# Altium footprint library LPEDT_Parts.PcbLib: 39 footprints (part 1 of 3)
Each footprint in its own frame and in the unit in brackets; x right, y up, seen from the top. Pads: shape width x height; smd on the part's side, far side on the other; paste and mask are expansions set on the pad; w line width, h text height; cw(c..) or ccw(c..) is an arc to the next point about the centre after c.
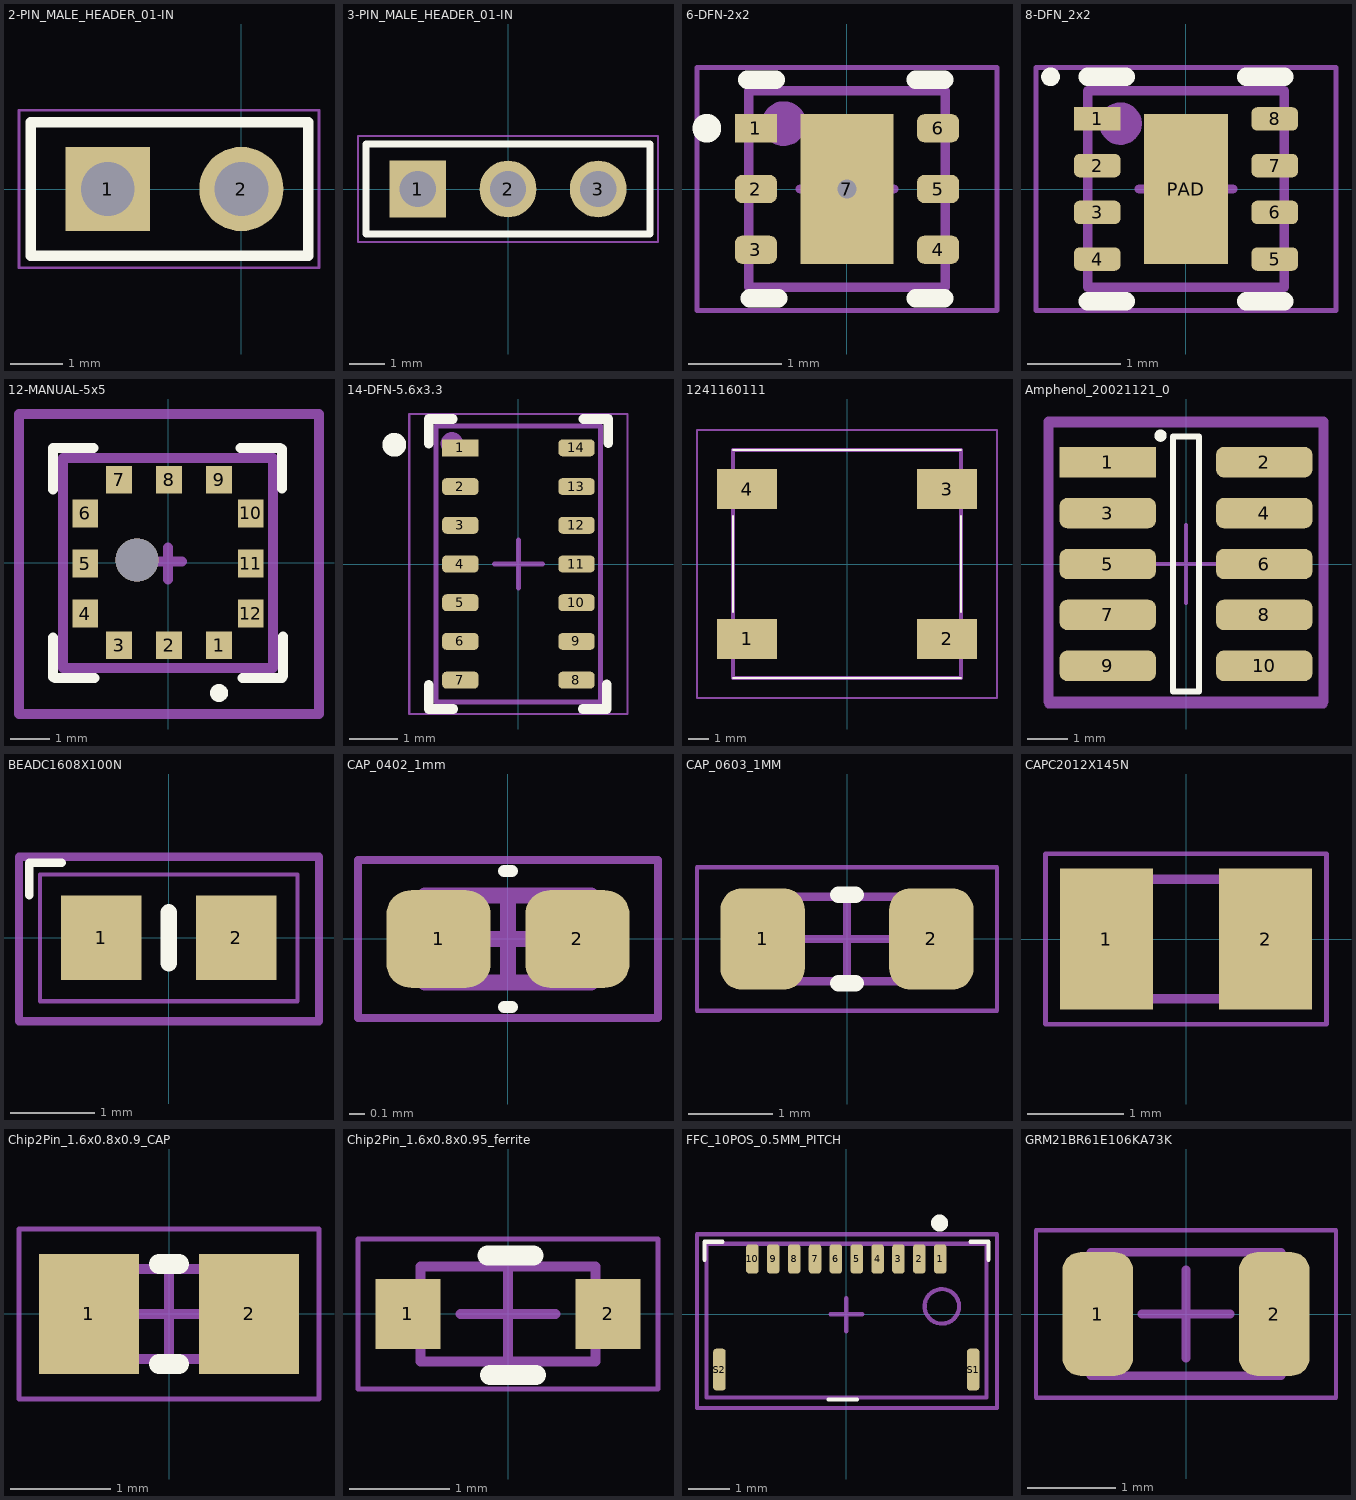
[diagram p0: the footprints below, top view; thin cyan lines are the x and y axes]

## 2-PIN_MALE_HEADER_01-IN [mm] ".025 SQ Post Terminal Strip Assembly, 1x2 Pins, Vertical, 2.54mm Pitch, Male"
height 8.58
pads (2):
  rect 1.6x1.6 hole 1.02: 1(-2.54,0)
  round 1.6 hole 1.02: 2(0,0)
Top Overlay:
  lines w0.2: -4,-1.27 1.27,-1.27 1.27,1.27 -4,1.27 -4,-1.27
Mechanical 13:
  lines w0.1: 1.219,-1.27 -4,-1.27 -4,1.27 1.27,1.27 1.27,-1.27
  text ".Designator" at -1.524,-0.635 h1.2
Mechanical 15:
  lines w0.05: -4.225,-1.495 1.473,-1.495 1.473,1.495 -4.225,1.495 -4.225,-1.495
  lines w0.1: -0.5,0 0.5,0 ; 0,-0.5 0,0.5

## 3-PIN_MALE_HEADER_01-IN [mm] ".025 SQ Post Terminal Strip Assembly, 1x3 Pins, Vertical, 2.54mm Pitch, Male"
height 8.58
pads (3):
  rect 1.6x1.6 hole 1.02: 1(-2.54,0)
  round 1.6 hole 1.02: 2(0,0) 3(2.54,0)
Top Overlay:
  lines w0.2: -4,-1.27 4,-1.27 4,1.27 -4,1.27 -4,-1.27
Mechanical 13:
  lines w0.1: -4,-1.27 4,-1.27 4,1.27 -4,1.27 -4,-1.27
  text ".Designator" at -1.524,-0.635 h1.3
Mechanical 15:
  lines w0.05: -4.225,-1.495 4.225,-1.495 4.225,1.495 -4.225,1.495 -4.225,-1.495
  lines w0.1: -0.5,0 0.5,0 ; 0,-0.5 0,0.5
3D body "User Library-Header_Male_3Pin.STEP": height 8.54, standoff -3, extent -3.81,-1.27 3.81,1.22

## 6-DFN-2x2 [mm] "Temperature Sensor Digital, Local 0°C ~ 85°C 16 b 6-WSON (2x2)"
height 0.8
pads (7):
  rect 0.45x0.3 smd mask+0.05: 1(-0.975,0.65)
  rrect50% 0.45x0.3 smd mask+0.05: 2(-0.975,0) 3(-0.975,-0.65) 4(0.975,-0.65) 5(0.975,0) 6(0.975,0.65)
  rect 1x1.6 smd paste-10 mask+0.05: 7(0,0)
via 0,0 diameter 0.5 hole 0.2
Top Overlay:
  circle w0.254: c-1.5,0.65 r0.025
  lines w0.2: -1.067,1.168 -0.762,1.168 ; -1.042,-1.168 -0.737,-1.168 ; 0.737,-1.168 1.042,-1.168 ; 0.737,1.168 1.042,1.168
Top Paste:
  rectangle: -0.5,-0.8 0.5,-0.25
  rectangle: -0.5,0.25 0.5,0.8
Mechanical 13:
  circle w0.254: c-0.675,0.7 r0.112
  lines w0.1: -1.05,-1.05 1.05,-1.05 1.05,1.05 -1.05,1.05 -1.05,-1.05
  text ".Designator" at -0.627,-0.716 h0.8
Mechanical 15:
  lines w0.05: -1.605,-1.3 1.605,-1.3 1.605,1.3 -1.605,1.3 -1.605,-1.3
  lines w0.1: -0.5,0 0.5,0 ; 0,-0.5 0,0.5
3D body "6-DFN-2x2.step": height 0.8, standoff 0, extent -1.13,-1.05 1.13,1.05

## 8-DFN_2x2 [mm] "DFN, 8-Leads, Body 2.00x2.00mm, Pitch 0.50mm, Thermal Pad 1.60x0.69mm, IPC Medium Density"
height 0.8
pads (9):
  rect 0.5x0.25 smd mask+0.07: 1(-0.95,0.75)
  rrect50% 0.5x0.25 smd mask+0.07: 2(-0.95,0.25) 3(-0.95,-0.25) 4(-0.95,-0.75) 5(0.95,-0.75) 6(0.95,-0.25) 7(0.95,0.25) 8(0.95,0.75)
  rect 0.9x1.6 smd paste-1 mask+0.07: PAD(0,0)
Top Overlay:
  circle w0.1: c-1.45,1.2 r0.05
  lines w0.2: -1.05,-1.2 -0.645,-1.2 ; -1.05,1.2 -0.645,1.2 ; 0.645,-1.2 1.05,-1.2 ; 0.645,1.2 1.05,1.2
Top Paste:
  rectangle: -0.45,0.1 0.45,0.8
  rectangle: -0.45,-0.8 0.45,-0.1
Mechanical 13:
  circle w0.254: c-0.7,0.7 r0.1
  lines w0.1: -1.05,-1.05 1.05,-1.05 1.05,1.05 -1.05,1.05 -1.05,-1.05
  text ".Designator" at -0.88,-0.463 h0.65
Mechanical 15:
  lines w0.05: -1.605,-1.3 1.605,-1.3 1.605,1.3 -1.605,1.3 -1.605,-1.3
  lines w0.1: -0.5,0 0.5,0 ; 0,-0.5 0,0.5
3D body "8-DFN_2x2.step": height 0.8, standoff 0, extent -1.051,-1.05 1.051,1.05

## 12-MANUAL-5x5 [mm] "Board Mount Pressure Sensors"
pads (12):
  rect 0.65x0.7 smd paste+0 mask+0.05: 1(1.296,-2.1) 2(0.025,-2.1) 3(-1.245,-2.1) 4(-2.1,-1.293) 5(-2.1,-0.023) 6(-2.1,1.247) 7(-1.245,2.1) 8(0.025,2.1) 9(1.295,2.1) 10(2.1,1.247) 11(2.1,-0.023) 12(2.1,-1.293)
via -0.787,0.067 diameter 1.1 hole 1.1
Top Overlay:
  circle w0.254: c1.295,-3.313 r0.102
  lines w0.254: -2.921,-2.906 -2.921,-1.906 ; -2.921,1.86 -2.921,2.91 -1.896,2.91 ; -2.87,-2.932 -1.87,-2.932 ; 1.845,2.91 2.845,2.91 ; 1.896,-2.932 2.896,-2.932 ; 2.896,1.885 2.896,2.885 ; 2.921,-2.881 2.921,-1.881
Mechanical 13:
  lines w0.254: -2.667,-2.678 2.667,-2.678 2.667,2.656 -2.667,2.656 -2.667,-2.678
  text ".Designator" at -0.736,-2.17 h1.52
Mechanical 15:
  lines w0.254: -0.381,0.025 0.356,0.025 ; 0,-0.432 0,0.381 ; -3.785,-3.846 -3.785,3.774 3.835,3.774 3.835,-3.846 -3.785,-3.846
3D body "MPRLS0015PG00001A.step": height 5.8, standoff 0, extent -2.497,-2.502 2.503,2.498

## 14-DFN-5.6x3.3 [mm] "Oximeter/Heart Rate Sensor I²C Output"
height 1.65
pads (14):
  rect 0.75x0.35 smd: 1(-1.2,2.4)
  rrect50% 0.75x0.35 smd: 2(-1.2,1.6) 3(-1.2,0.8) 4(-1.2,0) 5(-1.2,-0.8) 6(-1.2,-1.6) 7(-1.2,-2.4) 8(1.2,-2.4) 9(1.2,-1.6) 10(1.2,-0.8) 11(1.2,0) 12(1.2,0.8) 13(1.2,1.6) 14(1.2,2.4)
Top Overlay:
  circle w0.254: c-2.565,2.464 r0.119
  lines w0.2: -1.854,-2.997 -1.854,-2.497 ; -1.854,2.489 -1.854,2.989 ; -1.854,2.997 -1.354,2.997 ; -1.846,-2.997 -1.346,-2.997 ; 1.329,-2.997 1.829,-2.997 ; 1.346,2.997 1.846,2.997 ; 1.829,-2.989 1.829,-2.489 ; 1.854,2.497 1.854,2.997
Mechanical 13:
  circle w0.254: c-1.372,2.489 r0.108
  lines w0.1: -1.7,-2.85 1.7,-2.85 1.7,2.85 -1.7,2.85 -1.7,-2.85
  text ".Designator" at -1.45,-2.066 h1.2
Mechanical 15:
  lines w0.05: -2.255,-3.1 2.255,-3.1 2.255,3.1 -2.255,3.1 -2.255,-3.1
  lines w0.1: -0.5,0 0.5,0 ; 0,-0.5 0,0.5
3D body: height 1.65, standoff 0, extent -1.7,-2.85 1.7,2.85

## 1241160111 [mm]
pads (4):
  rect 3x2 smd: 1(-5,-3.75) 2(5,-3.75) 3(5,3.75) 4(-5,3.75)
Top Overlay:
  lines w0.1: -5.7,-5.7 5.7,-5.7 ; -5.7,-2.4 -5.7,2.4 ; -5.7,5.7 5.7,5.7 ; 5.7,-2.4 5.7,2.4
Mechanical 15:
  lines w0.2: -5.7,-5.7 5.7,-5.7 5.7,5.7 -5.7,5.7 -5.7,-5.7
Mechanical 20:
  lines w0.1: -7.5,-6.7 7.5,-6.7 7.5,6.7 -7.5,6.7 -7.5,-6.7
3D body "1241.1601.11.stp": height 4.85, standoff 0, extent -6.15,-5.7 6.15,5.7

## Amphenol_20021121_0 [mm]
pads (10):
  rect 2.4x0.76 smd paste+0 mask+0.051: 1(-1.95,2.54)
  rrect50% 2.4x0.76 smd paste+0 mask+0.051: 2(1.95,2.54) 3(-1.95,1.27) 4(1.95,1.27) 5(-1.95,0) 6(1.95,0) 7(-1.95,-1.27) 8(1.95,-1.27) 9(-1.95,-2.54) 10(1.95,-2.54)
Top Overlay:
  circle w0.152: c-0.635,3.2 r0.076
  lines w0.152: -0.325,-3.175 0.325,-3.175 0.325,3.175 -0.325,3.175 -0.325,-3.175
Mechanical 13:
  lines w0.254: -3.429,-3.429 -3.429,3.556 3.429,3.556 3.429,-3.429 -3.429,-3.429
  text ".Designator" at -2.921,-2.413 h1.52
Mechanical 15:
  lines w0.1: -0.975,0 0.975,0 ; 0,-0.975 0,0.975
  lines w0.2: -3.429,-3.5 3.429,-3.5 3.429,3.5 -3.429,3.5 -3.429,-3.5
3D body "20021121-00010C1LF--3DModel-STEP-533217.STEP": height 4.51, standoff 0.01, extent -2.75,-3.175 2.75,3.175

## BEADC1608X100N [mm]
pads (2):
  rect 0.95x1 smd: 1(-0.8,0) 2(0.8,0)
Top Overlay:
  lines w0.1: -1.651,0.508 -1.651,0.889 -1.27,0.889
  lines w0.2: 0,-0.3 0,0.3
Mechanical 15:
  lines w0.1: -1.774,-0.987 1.78,-0.987 1.78,0.962 -1.774,0.962 -1.774,-0.987
Mechanical 20:
  lines w0.05: -1.525,-0.75 1.525,-0.75 1.525,0.75 -1.525,0.75 -1.525,-0.75
3D body "74279260_Download_STP_WE-CBF-0603_rev1.stp": height 0.8, standoff 0, extent -0.775,-0.394 0.825,0.406

## CAP_0402_1mm [mm] "1.00x0.5"
height 0.55
pads (2):
  rrect50% 0.66x0.62 smd mask+0.08: 1(-0.44,0) 2(0.44,0)
Top Overlay:
  lines w0.076: -0.025,-0.432 0.025,-0.432 ; -0.025,0.432 0.025,0.432
Mechanical 13:
  lines w0.1: -0.525,-0.275 -0.525,0.275 0.525,0.275 0.525,-0.275 -0.525,-0.275
  text ".Designator" at -0.405,-0.158 h0.28
Mechanical 15:
  lines w0.05: -0.95,-0.5 -0.95,0.5 0.95,0.5 0.95,-0.5 -0.95,-0.5
  lines w0.1: -0.275,0 0.275,0 ; 0,-0.275 0,0.275
3D body "CAP_0402_1mm.step": height 0.55, standoff 0, extent -0.525,-0.275 0.525,0.275

## CAP_0603_1MM [mm] "Chip Capacitor, 2-Leads, Body 1.60x0.80mm, IPC Medium Density"
height 1
pads (2):
  rrect50% 1x1.2 smd: 1(-1,0) 2(1,0)
Top Overlay:
  lines w0.2: -0.1,-0.525 0.1,-0.525 ; -0.1,0.525 0.1,0.525
Mechanical 13:
  lines w0.1: -0.9,-0.5 0.9,-0.5 0.9,0.5 -0.9,0.5 -0.9,-0.5
  text ".Designator" at -0.723,-0.254 h0.5
Mechanical 15:
  lines w0.05: -1.778,-0.85 1.778,-0.85 1.778,0.85 -1.778,0.85 -1.778,-0.85
  lines w0.1: -0.5,0 0.5,0 ; 0,-0.5 0,0.5
3D body "CAP_0603_1608X10.step": height 1, standoff 0, extent -0.9,-0.5 0.9,0.5

## CAPC2012X145N [mm]
pads (2):
  rect 0.97x1.47 smd: 1(-0.83,0) 2(0.83,0)
Mechanical 15:
  lines w0.1: -1,-0.625 1,-0.625 1,0.625 -1,0.625 -1,-0.625
Mechanical 20:
  lines w0.05: -1.465,-0.89 1.465,-0.89 1.465,0.89 -1.465,0.89 -1.465,-0.89
3D body "GRM21BR60J107ME15K.stp": height 5.8, standoff -4.65, extent -10,-3.376 10,3.376

## Chip2Pin_1.6x0.8x0.9_CAP [mm] "10 pF ±5% 50V Ceramic Capacitor C0G, NP0 0603 (1608 Metric)"
height 0.9
pads (2):
  rect 1x1.2 smd: 1(-0.8,0) 2(0.8,0)
Top Overlay:
  lines w0.2: -0.1,-0.5 0.1,-0.5 ; -0.1,0.5 0.1,0.5
Mechanical 13:
  lines w0.1: -0.85,-0.45 0.85,-0.45 0.85,0.45 -0.85,0.45 -0.85,-0.45
  text ".Designator" at -0.435,0.346 h1.2
Mechanical 15:
  lines w0.05: -1.5,-0.85 1.5,-0.85 1.5,0.85 -1.5,0.85 -1.5,-0.85
  lines w0.1: -0.45,0 0.45,0 ; 0,-0.45 0,0.45
3D body "Chip2Pin_1.6x0.8x0.9_CAP.step": height 0.9, standoff 0, extent -0.85,-0.45 0.85,0.45

## Chip2Pin_1.6x0.8x0.95_ferrite [mm] "600 Ohms @ 100 MHz 1 Ferrite Bead 0603 (1608 Metric) 500mA 380mOhm"
height 0.95
pads (2):
  rect 0.65x0.7 smd: 1(-1,0) 2(1,0)
Top Overlay:
  lines w0.2: -0.203,0.584 0.254,0.584 ; -0.178,-0.61 0.279,-0.61
Mechanical 13:
  lines w0.1: -0.875,-0.475 -0.875,0.475 0.875,0.475 0.875,-0.475 -0.875,-0.475
  text ".Designator" at -0.66,-0.092 h1
Mechanical 15:
  lines w0.05: -1.5,-0.75 -1.5,0.75 1.5,0.75 1.5,-0.75 -1.5,-0.75
  lines w0.1: -0.475,0 0.475,0 ; 0,-0.475 0,0.475
3D body "Chip2Pin_1.6x0.8x0.95_ferrite.step": height 0.95, standoff 0, extent -0.875,-0.475 0.875,0.475

## FFC_10POS_0.5MM_PITCH [mm] "CONN FFC FPC 10POS 0.50MM R/A"
pads (12):
  rrect50% 0.3x0.7 smd mask+0.05: 1(2.25,1.325) 2(1.75,1.325) 3(1.25,1.325) 4(0.75,1.325) 5(0.25,1.325) 6(-0.25,1.325) 7(-0.75,1.325) 8(-1.25,1.325) 9(-1.75,1.325) 10(-2.25,1.325)
  rrect50% 0.3x1 smd mask+0.05: S1(3.04,-1.325) S2(-3.04,-1.325)
Top Overlay:
  circle w0.254: c2.235,2.184 r0.076
  lines w0.1: -3.4,1.306 -3.4,1.738 -2.968,1.738 ; -0.428,-2.047 0.258,-2.047 ; 2.976,1.738 3.408,1.738 3.408,1.306
Mechanical 13:
  circle w0.1: c2.29,0.189 r0.413
  lines w0.1: -3.349,-1.996 3.357,-1.996 3.357,1.687 -3.349,1.687 -3.349,-1.996
  text ".Designator" at -2.612,-1.562 h1.5
Mechanical 15:
  lines w0.1: -0.381,0 0.381,0 ; 0,-0.406 0,0.381 ; -3.577,-2.25 3.611,-2.25 3.611,1.916 -3.577,1.916 -3.577,-2.25
3D body "5034801000.stp": height 1.88, standoff -0.02, extent -3.349,-1.926 3.351,1.674

## GRM21BR61E106KA73K [mm] "CAP CER 10UF 25V X5R 0805"
height 1.4
pads (2):
  rrect50% 0.8x1.4 smd: 1(-1,0) 2(1,0)
Mechanical 13:
  lines w0.1: -1.075,-0.7 1.075,-0.7 1.075,0.7 -1.075,0.7 -1.075,-0.7
  text ".Designator" at -0.755,-0.33 h0.6
Mechanical 15:
  lines w0.05: -1.7,-0.95 1.7,-0.95 1.7,0.95 -1.7,0.95 -1.7,-0.95
  lines w0.1: -0.5,0 0.5,0 ; 0,-0.5 0,0.5
3D body "GRM21BR61E106KA73K.step": height 1.4, standoff 0, extent -1.075,-0.7 1.075,0.7